# Altium footprint library 692141030100.PcbLib: 1 footprints
Each footprint in its own frame and in the unit in brackets; x right, y up, seen from the top. Pads: shape width x height; smd on the part's side, far side on the other; paste and mask are expansions set on the pad; w line width, h text height; cw(c..) or ccw(c..) is an arc to the next point about the centre after c.
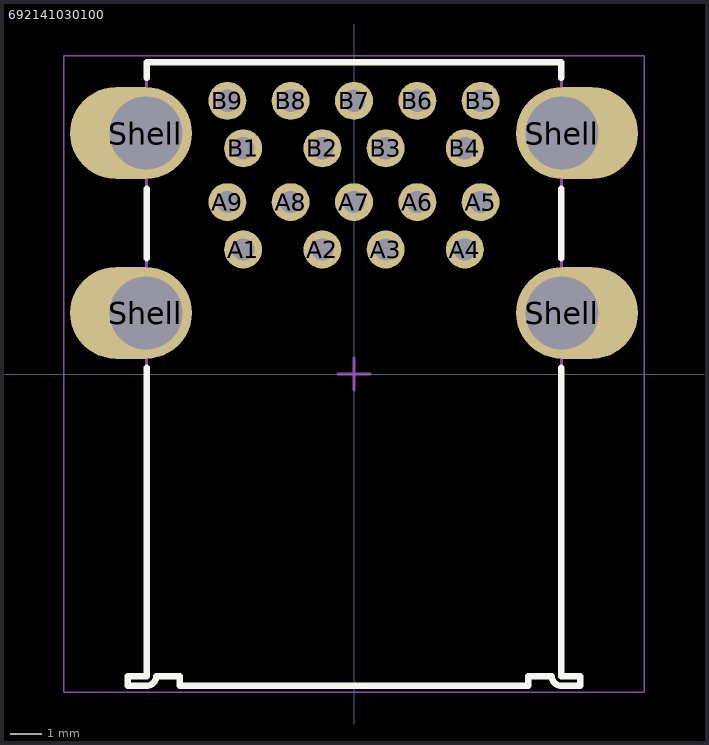
[diagram p0: the footprint, top view; thin cyan lines are the x and y axes]

## 692141030100 [mm] "USB 3.0 Type A Stacked"
height 15.42
pads (22):
  round 1.2 hole 0.7: A1(-3.5,3.93) A2(-1,3.93) A3(1,3.93) A4(3.5,3.93) A5(4,5.43) A6(2,5.43) A7(0,5.43) A8(-2,5.43) A9(-4,5.43) B1(-3.5,7.13) B2(-1,7.13) B3(1,7.13) B4(3.5,7.13) B5(4,8.63) B6(2,8.63) B7(0,8.63) B8(-2,8.63) B9(-4,8.63)
  oval 3.85x2.9 hole 2.3 copper offset -0.475,0: Shell(-6.57,1.93) Shell(-6.57,7.61)
  oval 3.85x2.9 hole 2.3 copper offset 0.475,0: Shell(6.57,1.93) Shell(6.57,7.61)
Top Overlay:
  lines w0.2: -6.55,0.2 -6.55,-9.55 -7.15,-9.55 -7.15,-9.85 -6.56,-9.85 ccw(c-6.55,-9.55) -6.25,-9.55 -5.5,-9.55 -5.5,-9.85 5.5,-9.85 5.5,-9.55 6.25,-9.55 ccw(c6.55,-9.55) 6.56,-9.85 7.15,-9.85 7.15,-9.55 6.55,-9.55 6.55,0.2 ; -6.55,3.66 -6.55,5.85 ; -6.55,9.35 -6.55,9.85 6.55,9.85 6.55,9.35 ; 6.55,3.66 6.55,5.85
Top Assembly:
  lines w0.1: -7.15,-9.85 -7.15,-9.55 -6.55,-9.55 -6.55,9.85 6.55,9.85 6.55,-9.55 7.15,-9.55 7.15,-9.85 6.56,-9.85 cw(c6.55,-9.55) 6.25,-9.55 5.5,-9.55 5.5,-9.85 -5.5,-9.85 -5.5,-9.55 -6.25,-9.55 cw(c-6.55,-9.55) -6.56,-9.85 -7.15,-9.85
Top Designator:
  text ".Designator" at -3.647,-0.357 h1
Top 3D Body:
  lines w0.1: -7.15,-9.85 -7.15,-9.55 -6.55,-9.55 -6.55,9.85 6.55,9.85 6.55,-9.55 7.15,-9.55 7.15,-9.85 6.56,-9.85 cw(c6.55,-9.55) 6.25,-9.55 5.5,-9.55 5.5,-9.85 -5.5,-9.85 -5.5,-9.55 -6.25,-9.55 cw(c-6.55,-9.55) -6.56,-9.85 -7.15,-9.85
Top Courtyard:
  lines w0.05: -9.17,-10.05 9.17,-10.05 9.17,10.05 -9.17,10.05 -9.17,-10.05
Top Component Center:
  lines w0.1: -0.5,0 0.5,0 ; 0,-0.5 0,0.5
3D body "692141030100.stp": height 16.16, standoff -3.45, extent -7.794,-9.85 7.792,9.85